# Altium schematic symbol library Интерфейс УШЯИ 468359.031 Э3.SchLib: 9 symbols
Pins are listed as number, name and electrical type; pins without a type are passive.

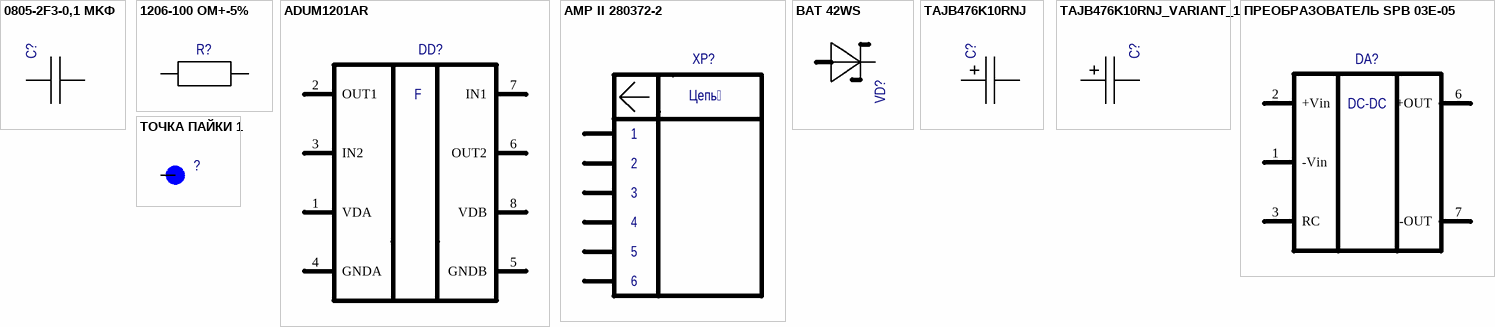
[diagram p0: symbols 0805-2F3-0,1 MKФ to ТОЧКА ПАЙКИ 1]

## 0805-2F3-0,1 MKФ
designator C?  (value not drawn)
Value: *
footprint 0805
pins: 1, 2

## 1206-100 ОМ+-5%
designator R?  (value not drawn)
Value: *
footprint 1206
pins: 1, 2 1

## ADUM1201AR
designator DD?  (value not drawn)
Value: *
footprint R-8
pins: 1 VDA, 2 OUT1, 3 IN2, 4 GNDA, 5 GNDB, 6 OUT2, 7 IN1, 8 VDB
text: F

## AMP II 280372-2
designator XP?  (value not drawn)
Value: *
footprint AMPMODU-0-280372-2_1X6
pins: 1, 2, 3, 4, 5, 6
text: Цепь

## BAT 42WS
designator VD?  (value not drawn)
Value: *
footprint SOD-323
pins: 1 +, 2 -

## TAJB476K10RNJ
designator C?  (value not drawn)
Value: *
footprint TANT_B
pins: 1, 2

## TAJB476K10RNJ_VARIANT_1
designator C?, comment TAJB476K10RNJ  (value not drawn)
TAJB476K10RNJ_VARIANT_1; Value: *
footprint TANT_B
pins: 1, 2

## ПРЕОБРАЗОВАТЕЛЬ SPB 03E-05
designator DA?  (value not drawn)
Value: *
footprint SPB 03
pins: 1 -Vin, 2 +Vin, 3 RC, 5 hidden, 6 +OUT, 7 -OUT, 8 hidden
text: DC-DC

## ТОЧКА ПАЙКИ 1
designator  ?  (value not drawn)
Value: *
footprint LEPESTOK7_750_224
pins: 1